# Altium schematic symbol library PIC16F716-I_SS.SchLib: 1 symbol
Pins are listed as number, name and electrical type; pins without a type are passive.

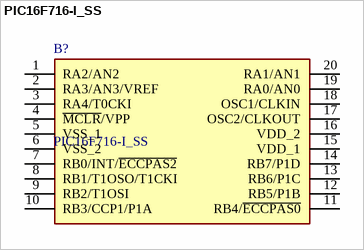
[diagram p0: symbol PIC16F716-I_SS]

## PIC16F716-I_SS
designator B?
Microchip PIC16F716-I/SS, 8bit PIC16F Microcontroller, 20MHz, 3.5 kB Flash, 20-Pin SSOP; Geometry.Height: 2mm; Mouser Part Number: 579-PIC16F716-I/SS; Mouser Price/Stock: https://www.mouser.co.uk/ProductDetail/Microchip-Technology-Atmel/PIC16F716-I-SS?qs=z30FE1aq6wY%2Fe40zUIPEhw%3D%3D; Manufacturer_Name: Microchip; Manufacturer_Part_Number: PIC16F716-I/SS; Datasheet Link: https://ww1.microchip.com/downloads/en/DeviceDoc/41206B.pdf
footprint SOP65P780X200-20N
pins: 1 RA2/AN2, 2 RA3/AN3/VREF, 3 RA4/T0CKI, 4 ~{MCLR}/VPP, 5 VSS_1, 6 VSS_2, 7 RB0/INT/~{ECCPAS2}, 8 RB1/T1OSO/T1CKI, 9 RB2/T1OSI, 10 RB3/CCP1/P1A, 11 RB4/~{ECCPAS0}, 12 RB5/P1B, 13 RB6/P1C, 14 RB7/P1D, 15 VDD_1, 16 VDD_2, 17 OSC2/CLKOUT, 18 OSC1/CLKIN, 19 RA0/AN0, 20 RA1/AN1